# Altium footprint library Capacitors.PcbLib: 43 footprints (part 3 of 3)
Each footprint in its own frame and in the unit in brackets; x right, y up, seen from the top. Pads: shape width x height; smd on the part's side, far side on the other; paste and mask are expansions set on the pad; w line width, h text height; cw(c..) or ccw(c..) is an arc to the next point about the centre after c.
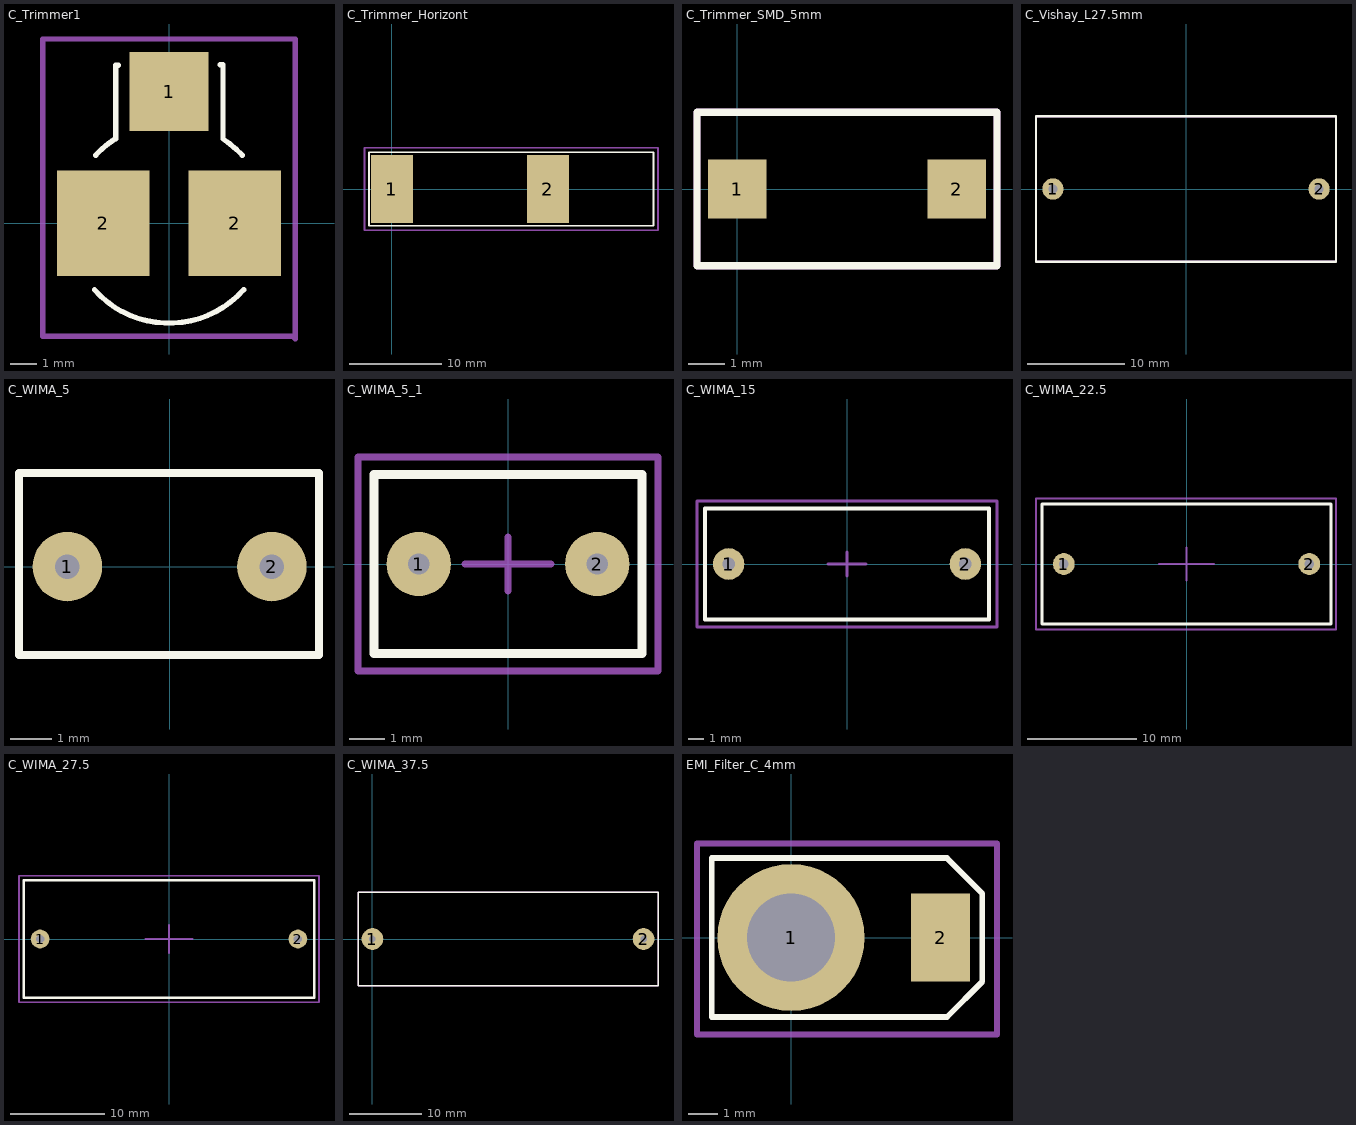
[diagram p2: the footprints below, top view; thin cyan lines are the x and y axes]

## C_Trimmer1 [mm]
pads (3):
  rect 3x3 smd: 1(0,5)
  rect 3.5x4 smd: 2(-2.5,0) 2(2.5,0)
Top Overlay:
  lines w0.2: -2.835,-2.531 ccw(c0,0) 2.84,-2.525 ; -2.785,2.586 cw(c0,0) -2.039,3.207 ; -2.025,3.2 -2.025,6 -1.925,6 ; 1.95,6.025 2.05,6.025 2.05,3.2 ; 2.05,3.2 cw(c0,0) 2.786,2.585
Mechanical 15:
  lines w0.2: -4.8,-4.3 -4.8,7 0,7 4.8,7 4.8,-4.4 4.7,-4.3 -4.8,-4.3

## C_Trimmer_Horizont [mm]
pads (2):
  rect 4.6x7.4 smd: 1(0,0) 2(17,0)
Top Overlay:
  lines w0.2: -2.5,-4 28.5,-4 28.5,4 -2.5,4 -2.5,-4
Mechanical 15:
  lines w0.2: -3,-4.5 -3,4.5 29,4.5 29,-4.5 -3,-4.5

## C_Trimmer_SMD_5mm [mm]
pads (2):
  rect 1.6x1.6 smd: 1(0,0) 2(6,0)
Top Overlay:
  lines w0.2: -1.1,-2.1 7.1,-2.1 7.1,2.1 -1.1,2.1 -1.1,-2.1
TopAssy:
  lines w0.2: -1.1,-2.1 7.1,-2.1 7.1,2.1 -1.1,2.1 -1.1,-2.1
3D body "User Library-trimmer.STEP": height 3.2, standoff -0.05, extent -0.523,-2.1 6.523,2.1

## C_Vishay_L27.5mm [mm]
height 25
pads (2):
  round 2.2 hole 0.9: 1(-13.75,0) 2(13.75,0)
Top Overlay:
  lines w0.254: -15.5,-7.5 15.5,-7.5 15.5,7.5 -15.5,7.5 -15.5,-7.5
TopAssy:
  lines w0.2: -15.5,-7.5 -15.5,7.5 15.5,7.5 15.5,-7.5 -15.5,-7.5
3D body: height 25, standoff 0, extent -15.5,-7.5 15.5,7.5
3D body: height 0, standoff -3, extent -14.147,-0.399 -13.35,0.399
3D body: height 0, standoff -3, extent 13.353,-0.399 14.15,0.399

## C_WIMA_5 [mm]
height 6.5
pads (2):
  round 1.7 hole 0.6: 1(-2.5,0) 2(2.5,0)
Top Overlay:
  lines w0.2: -3.683,-2.159 3.65,-2.159 3.65,2.286 -3.683,2.286 -3.683,-2.159
3D body "User Library-CAPRR500W50L720T450H950_WIMA_1E.STEP": height 9.55, standoff -2.45, extent -3.6,-2.25 3.6,2.25

## C_WIMA_5_1 [mm]
height 6.5
pads (2):
  round 1.8 hole 0.6: 1(-2.5,0) 2(2.5,0)
Top Overlay:
  lines w0.254: -3.75,-2.5 -3.75,2.5 3.75,2.5 3.75,-2.5 -3.75,-2.5
Mechanical 15:
  lines w0.2: -1.2,0 1.2,0 ; 0,-0.75 0,0.75 ; -4.2,-3 -4.2,3 4.2,3 4.2,-3 -4.2,-3

## C_WIMA_15 [mm]
height 6.5
pads (2):
  round 2 hole 0.8: 1(-7.5,0) 2(7.5,0)
Top Overlay:
  lines w0.254: -9,-3.5 9,-3.5 9,3.5 -9,3.5 -9,-3.5
Mechanical 15:
  lines w0.2: -1.2,0 1.2,0 ; 0,-0.75 0,0.75 ; -9.5,-4 -9.5,4 9.5,4 9.5,-4 -9.5,-4

## C_WIMA_22.5 [mm]
height 21
pads (2):
  round 2 hole 0.9: 1(-11.25,0) 2(11.25,0)
Top Overlay:
  lines w0.254: -13.25,-5.5 -13.25,5.5 13.25,5.5 13.25,-5.5 -13.25,-5.5
Mechanical 15:
  lines w0.2: -2.5,0 2.5,0 ; 0,-1.5 0,1.5 ; -13.8,-6 13.7,-6 13.7,6 -13.8,6 -13.8,-6

## C_WIMA_27.5 [mm]
height 21
pads (2):
  round 2 hole 0.9: 1(-13.75,0) 2(13.75,0)
Top Overlay:
  lines w0.254: -15.5,-6.25 15.5,-6.25 15.5,6.25 -15.5,6.25 -15.5,-6.25
Mechanical 15:
  lines w0.2: -2.5,0 2.5,0 ; 0,-1.5 0,1.5 ; -16,-6.75 -16,6.75 16,6.75 16,-6.75 -16,-6.75

## C_WIMA_37.5 [mm]
height 21
pads (2):
  round 3 hole 0.9: 1(0,0) 2(37.5,0)
Top Overlay:
  lines w0.2: -2,-6.5 -2,6.5 39.5,6.5 39.5,-6.5 -2,-6.5
TopAssy:
  lines w0.2: -2,-6.5 39.5,-6.5 39.5,6.5 -2,6.5 -2,-6.5
3D body: height 0, standoff -2, extent 37.103,-0.399 37.9,0.399
3D body: height 0, standoff -2, extent -0.397,-0.399 0.4,0.399
3D body: height 24, standoff 0, extent -1.999,-6.499 39.499,6.499

## EMI_Filter_C_4mm [mm]
pads (2):
  round 5 hole 3: 1(0,0)
  rect 2x3 smd: 2(5.08,0)
Top Overlay:
  lines w0.2: -2.7,-2.7 -2.7,2.7 5.3,2.7 6.5,1.5 6.5,-1.5 5.3,-2.7 -2.7,-2.7
Mechanical 15:
  lines w0.2: -3.2,-3.3 7,-3.3 7,3.2 -3.2,3.2 -3.2,-3.3